# Altium schematic symbol library STM32F446RE_Symbols.SchLib: 2 symbols
Pins are listed as number, name and electrical type; pins without a type are passive.

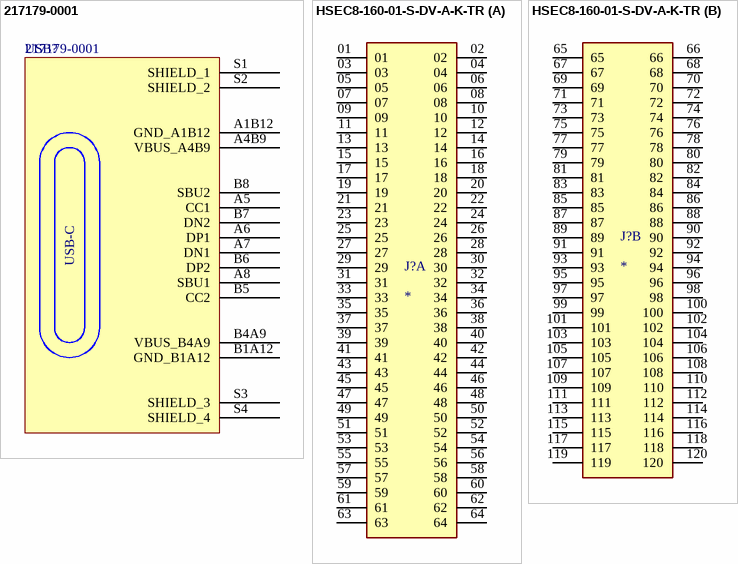
[diagram p0: symbols 217179-0001 to HSEC8-160-01-S-DV-A-K-TR]

## 217179-0001
designator USB?  Manufacturer Part Number: 217179-0001  (hidden comment: *)
USB Connector, 16 Contact(s), Female, Right Angle, Surface Mount Terminal, Locking, Receptacle; Manufacturer: Molex; USB Standard: 6108USBStandard; Current Rating: 1.25A; Gender: 4472Gender; Number of Contacts: 16NUMBER; Voltage Rating: 30V; Supplier 1: Farnell; RoHS: No; Category: USB Connectors; Stock 1: 10084; Pricing 1: 1=0,979, 10=0,774, 50=0,684, 100=0,593, 500=0,581, 1000=0,569 (EUR); Contact Material: 153,157ConductorMaterial; Min Operating Temperature: -40°C; Max Operating Temperature: 85°C; Height: 3.36mm; LCSC Part NUmber: C3197684; Supplier Part Number 1: 3702965
footprint FP-2171790001-MFG
pins: A1B12 GND_A1B12, A4B9 VBUS_A4B9, A5 CC1, A6 DP1, A7 DN1, A8 SBU1, B1A12 GND_B1A12, B4A9 VBUS_B4A9, B5 CC2, B6 DP2, B7 DN2, B8 SBU2, S1 SHIELD_1, S2 SHIELD_2, S3 SHIELD_3, S4 SHIELD_4
text: USB-C

## HSEC8-160-01-S-DV-A-K-TR
designator J?
0.80 mm High-Speed Edge Card Connector, Vertical; MF: Samtec; MP: HSEC8-160-01-S-DV-A-K-TR; Purchase-URL: https://pricing.snapeda.com/search/part/HSEC8-160-01-S-DV-A-K-TR/?ref=eda; Value: *; Check_prices: https://www.snapeda.com/parts/HSEC8-160-01-S-DV-A-K-TR/Samtec/view-part/?ref=eda; SnapEDA_Link: https://www.snapeda.com/parts/HSEC8-160-01-S-DV-A-K-TR/Samtec/view-part/?ref=snap; Package: None; Availability: In Stock; Price: None
footprint SAMTEC_HSEC8-160-01-S-DV-A-K-TR
part A pins: 01, 02, 03, 04, 05, 06, 07, 08, 09, 10, 11, 12, 13, 14, 15, 16, 17, 18, 19, 20, 21, 22, 23, 24, 25, 26, 27, 28, 29, 30, 31, 32, 33, 34, 35, 36, 37, 38, 39, 40, 41, 42, 43, 44, 45, 46, 47, 48, 49, 50, 51, 52, 53, 54, 55, 56, 57, 58, 59, 60, 61, 62, 63, 64
part B pins: 65, 66, 67, 68, 69, 70, 71, 72, 73, 74, 75, 76, 77, 78, 79, 80, 81, 82, 83, 84, 85, 86, 87, 88, 89, 90, 91, 92, 93, 94, 95, 96, 97, 98, 99, 100, 101, 102, 103, 104, 105, 106, 107, 108, 109, 110, 111, 112, 113, 114, 115, 116, 117, 118, 119, 120